# Altium integrated library Analog Devices RF IF Modulators and Demodulators.IntLib: 86 symbols (part 6 of 8)
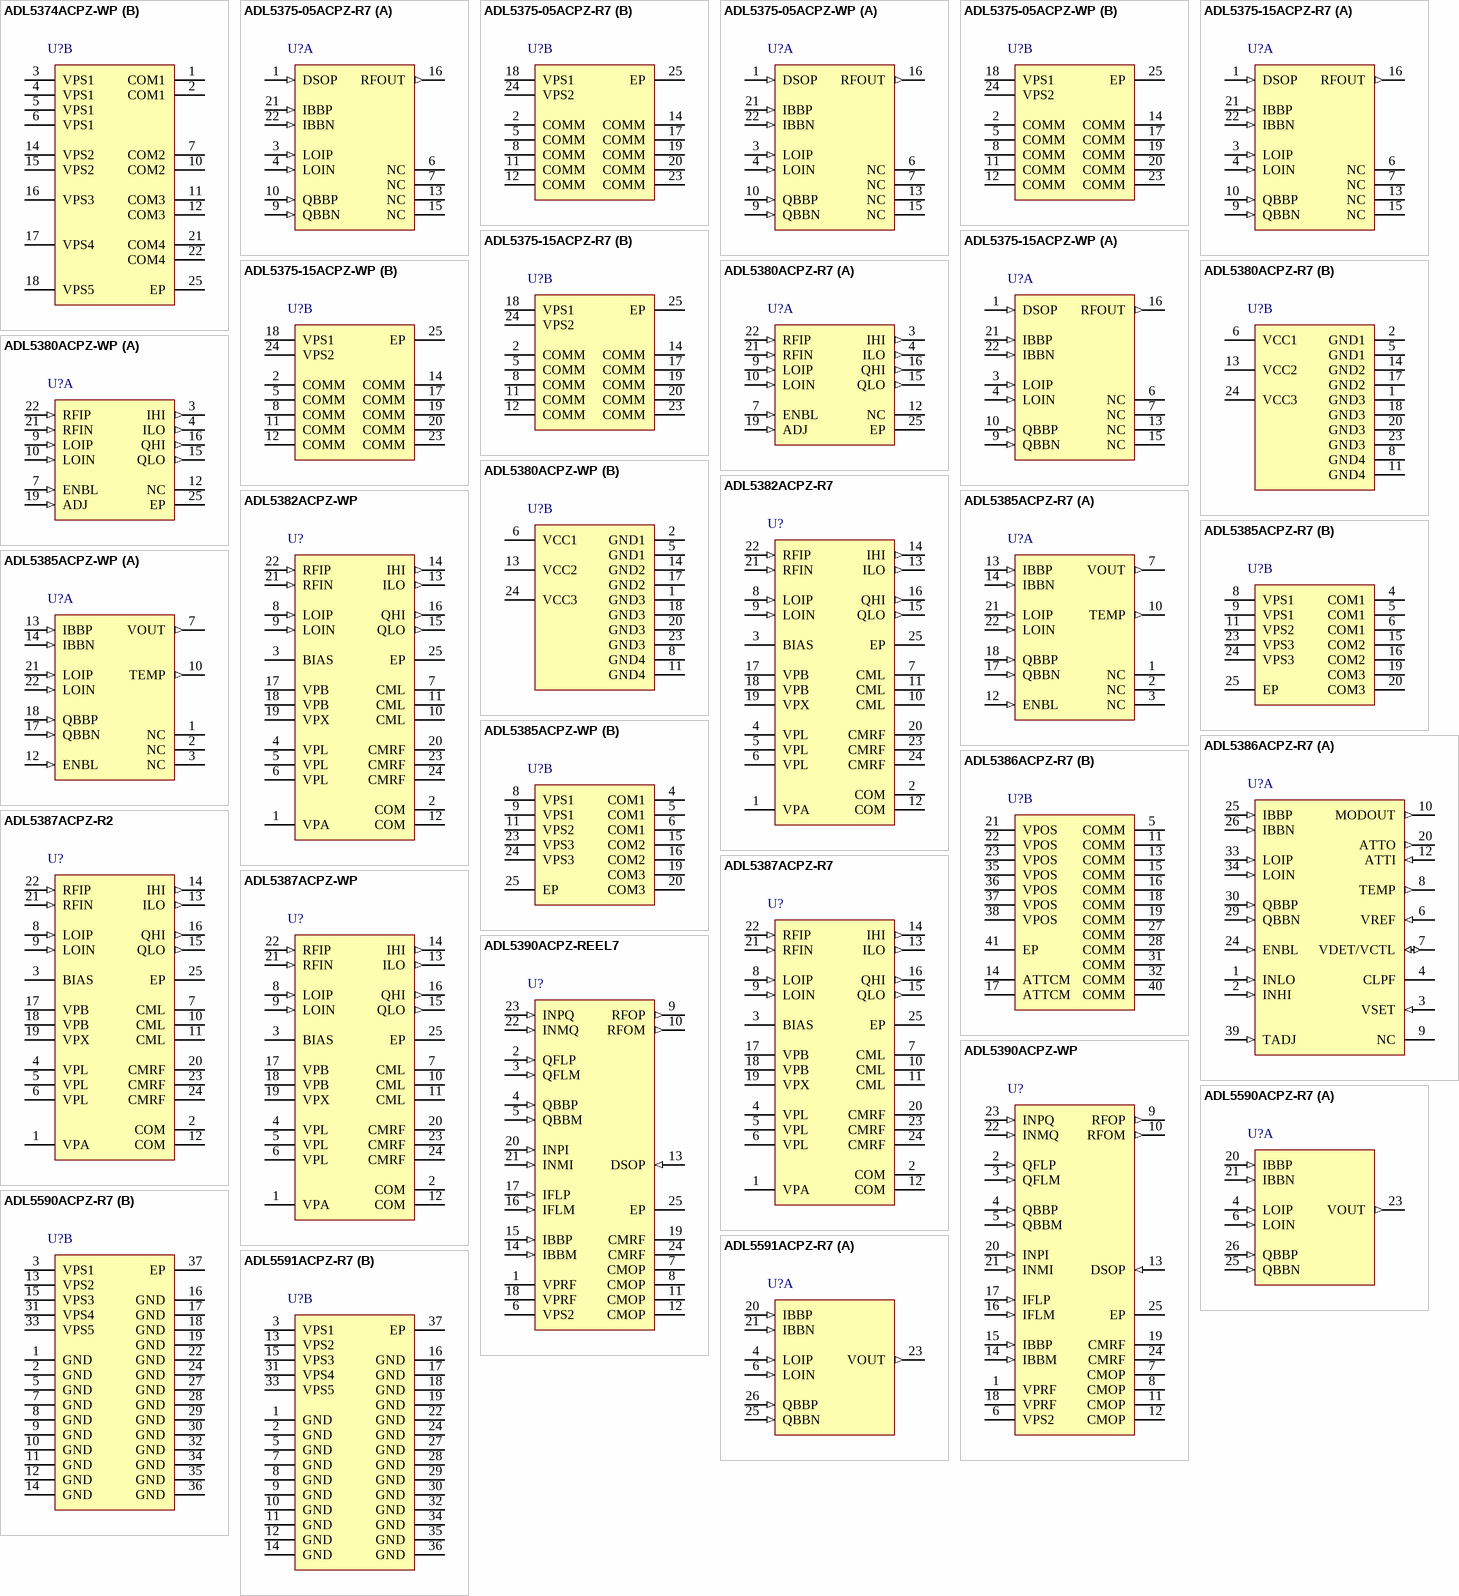
[diagram p10: symbols ADL5374ACPZ-WP to ADL5591ACPZ-R7]

## ADL5382ACPZ-R7
designator U?
700 MHz to 2.7 GHz Quadrature Demodulator, CP-24-2, Pb-Free, 1500 Reel; Min RF Frequency (MHz): 700MHz; Max RF Frequency (MHz): 2.7GHz; IQ Freq (MHz): 370MHz; Phase Error (deg): 0.2Deg; Amplitude Error (dB): 50mdB; Output P1dB (dBm): 14; DatasheetVersion: Rev. 0; PackageVersion: Jan-2005; PackageReference: CP-24-2; PackageDescription: 24-Lead Lead Frame Chip Scale Package [LFCSP_VQ]; Code_JEDEC: MO-220-VGGD-2; ComponentLink1Description: Manufacturer URL; ComponentLink1URL: www.analog.com; ComponentLink2Description: Datasheet; ComponentLink2URL: http://www.analog.com/static/imported-files/data_sheets/ADL5382.pdf; ComponentLink3Description: Package Specification; ComponentLink3URL: http://www.analog.com/static/imported-files/packages/588305704543880784658541CP_24_2.pdf
footprint ADI-CP-24-2_N (QFN, 24-Leads, Body 4x4mm, Pitch 0.5mm, Thermal Pad 2.3x2.3mm, IPC Medium Density)
footprint ADI-CP-24-2_L (QFN, 24-Leads, Body 4x4mm, Pitch 0.5mm, Thermal Pad 2.3x2.3mm, IPC High Density)
footprint ADI-CP-24-2_M (QFN, 24-Leads, Body 4x4mm, Pitch 0.5mm, Thermal Pad 2.3x2.3mm, IPC Low Density)
pins: 1 VPA (power) "Supply. Positive supply for LO, IF, biasing, and baseband sections. These pins should be decoupled to the board ground using appropriate-sized capacitors.", 2 COM (power) "Ground. Connect to a low impedance ground plane", 3 BIAS "Bias Control. A resistor (RBIAS) can be connected between BIAS and COM to reduce the mixer core current. The default setting for this pin is open.", 4 VPL (power) "Supply. Positive supply for LO, IF, biasing, and baseband sections. These pins should be decoupled to the board ground using appropriate-sized capacitors.", 5 VPL (power) "Supply. Positive supply for LO, IF, biasing, and baseband sections. These pins should be decoupled to the board ground using appropriate-sized capacitors.", 6 VPL (power) "Supply. Positive supply for LO, IF, biasing, and baseband sections. These pins should be decoupled to the board ground using appropriate-sized capacitors.", 7 CML (power) "Ground. Connect to a low impedance ground plane", 8 LOIP (in) "Local Oscillator Input. Pins must be ac-coupled. A differential drive through a balun (recommended balun is the M/A-COM ETC1-1-13) is necessary to achieve optimal performance.", 9 LOIN (in) "Local Oscillator Input. Pins must be ac-coupled. A differential drive through a balun (recommended balun is the M/A-COM ETC1-1-13) is necessary to achieve optimal performance.", 10 CML (power) "Ground. Connect to a low impedance ground plane", 11 CML (power) "Ground. Connect to a low impedance ground plane", 12 COM (power) "Ground. Connect to a low impedance ground plane", 13 ILO (out) "I Channel and Q Channel Mixer Baseband Outputs. These outputs have a 50 O differential output impedance (25 O per pin).  [see datasheet]", 14 IHI (out) "I Channel and Q Channel Mixer Baseband Outputs. These outputs have a 50 O differential output impedance (25 O per pin).  [see datasheet]", 15 QLO (out) "I Channel and Q Channel Mixer Baseband Outputs. These outputs have a 50 O differential output impedance (25 O per pin).  [see datasheet]", 16 QHI (out) "I Channel and Q Channel Mixer Baseband Outputs. These outputs have a 50 O differential output impedance (25 O per pin).  [see datasheet]", 17 VPB (power) "Supply. Positive supply for LO, IF, biasing, and baseband sections. These pins should be decoupled to the board ground using appropriate-sized capacitors.", 18 VPB (power) "Supply. Positive supply for LO, IF, biasing, and baseband sections. These pins should be decoupled to the board ground using appropriate-sized capacitors.", 19 VPX (power) "Supply. Positive supply for LO, IF, biasing, and baseband sections. These pins should be decoupled to the board ground using appropriate-sized capacitors.", 20 CMRF (power) "Ground. Connect to a low impedance ground plane", 21 RFIN (in) "RF Input. A single-ended 50 O signal can be applied to the RF inputs through a 1:1 balun (recommended balun is the M/A-COM ETC1-1-13).  [see datasheet]", 22 RFIP (in) "RF Input. A single-ended 50 O signal can be applied to the RF inputs through a 1:1 balun (recommended balun is the M/A-COM ETC1-1-13).  [see datasheet]", 23 CMRF (power) "Ground. Connect to a low impedance ground plane", 24 CMRF (power) "Ground. Connect to a low impedance ground plane", 25 EP (power) "Exposed Paddle. Connect to a low impedance thermal and electrical ground plane."

## ADL5382ACPZ-WP
designator U?
700 MHz to 2.7 GHz Quadrature Demodulator, CP-24-2, Pb-Free, 64 Tray; Min RF Frequency (MHz): 700MHz; Max RF Frequency (MHz): 2.7GHz; IQ Freq (MHz): 370MHz; Phase Error (deg): 0.2Deg; Amplitude Error (dB): 50mdB; Output P1dB (dBm): 14; DatasheetVersion: Rev. 0; PackageVersion: Jan-2005; PackageReference: CP-24-2; PackageDescription: 24-Lead Lead Frame Chip Scale Package [LFCSP_VQ]; Code_JEDEC: MO-220-VGGD-2; ComponentLink1Description: Manufacturer URL; ComponentLink1URL: www.analog.com; ComponentLink2Description: Datasheet; ComponentLink2URL: http://www.analog.com/static/imported-files/data_sheets/ADL5382.pdf; ComponentLink3Description: Package Specification; ComponentLink3URL: http://www.analog.com/static/imported-files/packages/588305704543880784658541CP_24_2.pdf
footprint ADI-CP-24-2_N (QFN, 24-Leads, Body 4x4mm, Pitch 0.5mm, Thermal Pad 2.3x2.3mm, IPC Medium Density)
footprint ADI-CP-24-2_L (QFN, 24-Leads, Body 4x4mm, Pitch 0.5mm, Thermal Pad 2.3x2.3mm, IPC High Density)
footprint ADI-CP-24-2_M (QFN, 24-Leads, Body 4x4mm, Pitch 0.5mm, Thermal Pad 2.3x2.3mm, IPC Low Density)
pins: 1 VPA (power) "Supply. Positive supply for LO, IF, biasing, and baseband sections. These pins should be decoupled to the board ground using appropriate-sized capacitors.", 2 COM (power) "Ground. Connect to a low impedance ground plane", 3 BIAS "Bias Control. A resistor (RBIAS) can be connected between BIAS and COM to reduce the mixer core current. The default setting for this pin is open.", 4 VPL (power) "Supply. Positive supply for LO, IF, biasing, and baseband sections. These pins should be decoupled to the board ground using appropriate-sized capacitors.", 5 VPL (power) "Supply. Positive supply for LO, IF, biasing, and baseband sections. These pins should be decoupled to the board ground using appropriate-sized capacitors.", 6 VPL (power) "Supply. Positive supply for LO, IF, biasing, and baseband sections. These pins should be decoupled to the board ground using appropriate-sized capacitors.", 7 CML (power) "Ground. Connect to a low impedance ground plane", 8 LOIP (in) "Local Oscillator Input. Pins must be ac-coupled. A differential drive through a balun (recommended balun is the M/A-COM ETC1-1-13) is necessary to achieve optimal performance.", 9 LOIN (in) "Local Oscillator Input. Pins must be ac-coupled. A differential drive through a balun (recommended balun is the M/A-COM ETC1-1-13) is necessary to achieve optimal performance.", 10 CML (power) "Ground. Connect to a low impedance ground plane", 11 CML (power) "Ground. Connect to a low impedance ground plane", 12 COM (power) "Ground. Connect to a low impedance ground plane", 13 ILO (out) "I Channel and Q Channel Mixer Baseband Outputs. These outputs have a 50 O differential output impedance (25 O per pin).  [see datasheet]", 14 IHI (out) "I Channel and Q Channel Mixer Baseband Outputs. These outputs have a 50 O differential output impedance (25 O per pin).  [see datasheet]", 15 QLO (out) "I Channel and Q Channel Mixer Baseband Outputs. These outputs have a 50 O differential output impedance (25 O per pin).  [see datasheet]", 16 QHI (out) "I Channel and Q Channel Mixer Baseband Outputs. These outputs have a 50 O differential output impedance (25 O per pin).  [see datasheet]", 17 VPB (power) "Supply. Positive supply for LO, IF, biasing, and baseband sections. These pins should be decoupled to the board ground using appropriate-sized capacitors.", 18 VPB (power) "Supply. Positive supply for LO, IF, biasing, and baseband sections. These pins should be decoupled to the board ground using appropriate-sized capacitors.", 19 VPX (power) "Supply. Positive supply for LO, IF, biasing, and baseband sections. These pins should be decoupled to the board ground using appropriate-sized capacitors.", 20 CMRF (power) "Ground. Connect to a low impedance ground plane", 21 RFIN (in) "RF Input. A single-ended 50 O signal can be applied to the RF inputs through a 1:1 balun (recommended balun is the M/A-COM ETC1-1-13).  [see datasheet]", 22 RFIP (in) "RF Input. A single-ended 50 O signal can be applied to the RF inputs through a 1:1 balun (recommended balun is the M/A-COM ETC1-1-13).  [see datasheet]", 23 CMRF (power) "Ground. Connect to a low impedance ground plane", 24 CMRF (power) "Ground. Connect to a low impedance ground plane", 25 EP (power) "Exposed Paddle. Connect to a low impedance thermal and electrical ground plane."

## ADL5385ACPZ-R7
designator U?
50 MHz to 2200 MHz Quadrature Modulator, CP-24-2, Pb-Free, 1500 Reel; Min RF Frequency (MHz): 50MHz; Max RF Frequency (MHz): 2.2GHz; IQ Freq (MHz): 500MHz; IIP3 (+dBm): 26dBm; Output P1dB (dBm): 11; DatasheetVersion: Rev0; PackageVersion: Jan-2005; PackageReference: CP-24-2; PackageDescription: 24-Lead Lead Frame Chip Scale Package [LFCSP_VQ]; Code_JEDEC: MO-220-VGGD-2; ComponentLink1Description: Manufacturer URL; ComponentLink1URL: www.analog.com; ComponentLink2Description: Datasheet; ComponentLink2URL: http://www.analog.com/static/imported-files/data_sheets/ADL5385.pdf; ComponentLink3Description: Package Specification; ComponentLink3URL: http://www.analog.com/static/imported-files/packages/588305704543880784658541CP_24_2.pdf
footprint ADI-CP-24-2_N (QFN, 24-Leads, Body 4x4mm, Pitch 0.5mm, Thermal Pad 2.3x2.3mm, IPC Medium Density)
footprint ADI-CP-24-2_L (QFN, 24-Leads, Body 4x4mm, Pitch 0.5mm, Thermal Pad 2.3x2.3mm, IPC High Density)
footprint ADI-CP-24-2_M (QFN, 24-Leads, Body 4x4mm, Pitch 0.5mm, Thermal Pad 2.3x2.3mm, IPC Low Density)
part A pins: 1 NC "No Connection. These pins can be left open or tied to ground.", 2 NC "No Connection. These pins can be left open or tied to ground.", 3 NC "No Connection. These pins can be left open or tied to ground.", 7 VOUT (out) "Device Output. Single-ended, 50  ohm internally biased RF/IF output; pin must be ac-coupled to the load", 10 TEMP (out) "Temperature Sensor Output. Provides dc voltage proportional to die temperature. Slope is 4.6 mV/ degreesC", 12 ENBL (in) "Device Enable. Shuts device down when grounded and enables device when pulled to supply voltage.", 13 IBBP (in) "Differential In-Phase and Quadrature Baseband Inputs. These high impedance inputs must be externally dc-biased to 500 mV dc and driven from a low impedance source. [see datasheet]", 14 IBBN (in) "Differential In-Phase and Quadrature Baseband Inputs. These high impedance inputs must be externally dc-biased to 500 mV dc and driven from a low impedance source. [see datasheet]", 17 QBBN (in) "Differential In-Phase and Quadrature Baseband Inputs. These high impedance inputs must be externally dc-biased to 500 mV dc and driven from a low impedance source. [see datasheet]", 18 QBBP (in) "Differential In-Phase and Quadrature Baseband Inputs. These high impedance inputs must be externally dc-biased to 500 mV dc and driven from a low impedance source. [see datasheet]", 21 LOIP (in) "Single-Ended Two-Times Local Oscillator Input. This input is internally biased and must be ac-coupled to the LO source.", 22 LOIN (in) "Common for LO Input. Must be ac-coupled to ground through a low impedance path."
part B pins: 4 COM1 (power) "Power Supply Common Pins. COM1, COM2, and COM3 must all be connected to a ground plane via a low impedance path.", 5 COM1 (power) "Power Supply Common Pins. COM1, COM2, and COM3 must all be connected to a ground plane via a low impedance path.", 6 COM1 (power) "Power Supply Common Pins. COM1, COM2, and COM3 must all be connected to a ground plane via a low impedance path.", 8 VPS1 (power) "Power Supply Pins. Decouple each pin with a 0.1 uF capacitor; Pin 8 and Pin 9 can share a single capacitor, as can Pin 23 and Pin 24. All pins must be connected to the same supply (Vs).", 9 VPS1 (power) "Power Supply Pins. Decouple each pin with a 0.1 uF capacitor; Pin 8 and Pin 9 can share a single capacitor, as can Pin 23 and Pin 24. All pins must be connected to the same supply (Vs).", 11 VPS2 (power) "Power Supply Pins. Decouple each pin with a 0.1 uF capacitor; Pin 8 and Pin 9 can share a single capacitor, as can Pin 23 and Pin 24. All pins must be connected to the same supply (Vs).", 15 COM2 (power) "Power Supply Common Pins. COM1, COM2, and COM3 must all be connected to a ground plane via a low impedance path.", 16 COM2 (power) "Power Supply Common Pins. COM1, COM2, and COM3 must all be connected to a ground plane via a low impedance path.", 19 COM3 (power) "Power Supply Common Pins. COM1, COM2, and COM3 must all be connected to a ground plane via a low impedance path.", 20 COM3 (power) "Power Supply Common Pins. COM1, COM2, and COM3 must all be connected to a ground plane via a low impedance path.", 23 VPS3 (power) "Power Supply Pins. Decouple each pin with a 0.1 uF capacitor; Pin 8 and Pin 9 can share a single capacitor, as can Pin 23 and Pin 24. All pins must be connected to the same supply (Vs).", 24 VPS3 (power) "Power Supply Pins. Decouple each pin with a 0.1 uF capacitor; Pin 8 and Pin 9 can share a single capacitor, as can Pin 23 and Pin 24. All pins must be connected to the same supply (Vs).", 25 EP (power) "Connect to ground plane via a low impedance path."

## ADL5385ACPZ-WP
designator U?
50 MHz to 2200 MHz Quadrature Modulator, CP-24-2, Pb-Free, 64 Tray; Min RF Frequency (MHz): 50MHz; Max RF Frequency (MHz): 2.2GHz; IQ Freq (MHz): 500MHz; IIP3 (+dBm): 26dBm; Output P1dB (dBm): 11; DatasheetVersion: Rev0; PackageVersion: Jan-2005; PackageReference: CP-24-2; PackageDescription: 24-Lead Lead Frame Chip Scale Package [LFCSP_VQ]; Code_JEDEC: MO-220-VGGD-2; ComponentLink1Description: Manufacturer URL; ComponentLink1URL: www.analog.com; ComponentLink2Description: Datasheet; ComponentLink2URL: http://www.analog.com/static/imported-files/data_sheets/ADL5385.pdf; ComponentLink3Description: Package Specification; ComponentLink3URL: http://www.analog.com/static/imported-files/packages/588305704543880784658541CP_24_2.pdf
footprint ADI-CP-24-2_N (QFN, 24-Leads, Body 4x4mm, Pitch 0.5mm, Thermal Pad 2.3x2.3mm, IPC Medium Density)
footprint ADI-CP-24-2_L (QFN, 24-Leads, Body 4x4mm, Pitch 0.5mm, Thermal Pad 2.3x2.3mm, IPC High Density)
footprint ADI-CP-24-2_M (QFN, 24-Leads, Body 4x4mm, Pitch 0.5mm, Thermal Pad 2.3x2.3mm, IPC Low Density)
part A pins: 1 NC "No Connection. These pins can be left open or tied to ground.", 2 NC "No Connection. These pins can be left open or tied to ground.", 3 NC "No Connection. These pins can be left open or tied to ground.", 7 VOUT (out) "Device Output. Single-ended, 50  ohm internally biased RF/IF output; pin must be ac-coupled to the load", 10 TEMP (out) "Temperature Sensor Output. Provides dc voltage proportional to die temperature. Slope is 4.6 mV/ degreesC", 12 ENBL (in) "Device Enable. Shuts device down when grounded and enables device when pulled to supply voltage.", 13 IBBP (in) "Differential In-Phase and Quadrature Baseband Inputs. These high impedance inputs must be externally dc-biased to 500 mV dc and driven from a low impedance source. [see datasheet]", 14 IBBN (in) "Differential In-Phase and Quadrature Baseband Inputs. These high impedance inputs must be externally dc-biased to 500 mV dc and driven from a low impedance source. [see datasheet]", 17 QBBN (in) "Differential In-Phase and Quadrature Baseband Inputs. These high impedance inputs must be externally dc-biased to 500 mV dc and driven from a low impedance source. [see datasheet]", 18 QBBP (in) "Differential In-Phase and Quadrature Baseband Inputs. These high impedance inputs must be externally dc-biased to 500 mV dc and driven from a low impedance source. [see datasheet]", 21 LOIP (in) "Single-Ended Two-Times Local Oscillator Input. This input is internally biased and must be ac-coupled to the LO source.", 22 LOIN (in) "Common for LO Input. Must be ac-coupled to ground through a low impedance path."
part B pins: 4 COM1 (power) "Power Supply Common Pins. COM1, COM2, and COM3 must all be connected to a ground plane via a low impedance path.", 5 COM1 (power) "Power Supply Common Pins. COM1, COM2, and COM3 must all be connected to a ground plane via a low impedance path.", 6 COM1 (power) "Power Supply Common Pins. COM1, COM2, and COM3 must all be connected to a ground plane via a low impedance path.", 8 VPS1 (power) "Power Supply Pins. Decouple each pin with a 0.1 uF capacitor; Pin 8 and Pin 9 can share a single capacitor, as can Pin 23 and Pin 24. All pins must be connected to the same supply (Vs).", 9 VPS1 (power) "Power Supply Pins. Decouple each pin with a 0.1 uF capacitor; Pin 8 and Pin 9 can share a single capacitor, as can Pin 23 and Pin 24. All pins must be connected to the same supply (Vs).", 11 VPS2 (power) "Power Supply Pins. Decouple each pin with a 0.1 uF capacitor; Pin 8 and Pin 9 can share a single capacitor, as can Pin 23 and Pin 24. All pins must be connected to the same supply (Vs).", 15 COM2 (power) "Power Supply Common Pins. COM1, COM2, and COM3 must all be connected to a ground plane via a low impedance path.", 16 COM2 (power) "Power Supply Common Pins. COM1, COM2, and COM3 must all be connected to a ground plane via a low impedance path.", 19 COM3 (power) "Power Supply Common Pins. COM1, COM2, and COM3 must all be connected to a ground plane via a low impedance path.", 20 COM3 (power) "Power Supply Common Pins. COM1, COM2, and COM3 must all be connected to a ground plane via a low impedance path.", 23 VPS3 (power) "Power Supply Pins. Decouple each pin with a 0.1 uF capacitor; Pin 8 and Pin 9 can share a single capacitor, as can Pin 23 and Pin 24. All pins must be connected to the same supply (Vs).", 24 VPS3 (power) "Power Supply Pins. Decouple each pin with a 0.1 uF capacitor; Pin 8 and Pin 9 can share a single capacitor, as can Pin 23 and Pin 24. All pins must be connected to the same supply (Vs).", 25 EP (power) "Connect to ground plane via a low impedance path."

## ADL5386ACPZ-R7
designator U?
50 MHz to 2200 MHz Quadrature Modulator with Integrated Detector and VVA, CP-40-1, Pb-Free, 750 Reel; Min RF Frequency (MHz): 50MHz; Max RF Frequency (MHz): 2.2GHz; IQ Freq (MHz): 700MHz; IIP3 (+dBm): 25dBm; Output P1dB (dBm): 11; DatasheetVersion: Rev0; PackageVersion: Oct-2006; PackageReference: CP-40-1; PackageDescription: 40-Lead Lead Frame Chip Scale Package [LFCSP_VQ]; Code_JEDEC: MO-220-VJJD-2; ComponentLink1Description: Manufacturer URL; ComponentLink1URL: www.analog.com; ComponentLink2Description: Datasheet; ComponentLink2URL: http://www.analog.com/static/imported-files/data_sheets/ADL5386.pdf; ComponentLink3Description: Package Specification; ComponentLink3URL: http://www.analog.com/static/imported-files/packages/PKG_PDF/LFCSP(CP)/CP_40_1.pdf
footprint ADI-CP-40-1_N (QFN, 40-Leads, Body 6x6mm, Pitch 0.5mm, Thermal Pad 4.3x4.3mm, IPC Medium Density)
footprint ADI-CP-40-1_L (QFN, 40-Leads, Body 6x6mm, Pitch 0.5mm, Thermal Pad 4.3x4.3mm, IPC High Density)
footprint ADI-CP-40-1_M (QFN, 40-Leads, Body 6x6mm, Pitch 0.5mm, Thermal Pad 4.3x4.3mm, IPC Low Density)
part A pins: 1 INLO (in) "Detector Common. This pin should be ac-coupled to ground.", 2 INHI (in) "Detector Input. When operating in AGC mode, a portion of the signal at the output of the VVA (or at the output of a subsequent stage) is coupled back to this input. [see datasheet]", 3 VSET (in) "Setpoint Input. Setpoint input for controller mode or feedback input for measurement mode.", 4 CLPF "AGC Loop Filter Capacitor. The ground-referenced capacitor that is connected to this pin sets the loop bandwidth of the AGC circuit.", 6 VREF (in) "Attenuator Control Voltage Reference.", 7 VDET/VCTL (io) "Detector Output/VVA Control Voltage Input. When the VVA is being controlled externally (open-loop mode), the attenuation is controlled by the external voltage applied to this pin. [see datasheet]", 8 TEMP (out) "Temperature Sensor Output. This pin provides a standalone temperature sensor output voltage. At room temperature, the nominal output voltage is equal to 1.45 V. [see datasheet]", 9 NC "No Connect. Do not connect this pin.", 10 MODOUT (out) "RF Output of IQ Modulator. Single-ended, 50  ohm internally biased RF output. MODOUT is generally ac-coupled to the input of the VVA (either ATTI or ATTO).", 12 ATTI (in) "VVA RF Input/Output. ATTI is normally ac-coupled to MODOUT. However, because the VVA is completely reversible, MODOUT can also drive ATTO with ATTI operating as the VVA output.", 20 ATTO (out) "VVA RF Input/Output. ATTI is normally ac-coupled to MODOUT. However, because the VVA is completely reversible, MODOUT can also drive ATTO with ATTI operating as the VVA output.", 24 ENBL (in) "IQ Modulator Enable. The IQ modulator is enabled by connecting this pin to VPOS and is disabled by connecting ENBL to ground.", 25 IBBP (in) "Differential In-Phase and Quadrature Baseband Inputs. These high impedance inputs should be dc-biased to 0.5 V. Nominal characterized ac signal swing is 700 mV p-p on each pin, resulting in a differential drive of 1.4 V p-p on each input pair. [see datas", 26 IBBN (in) "Differential In-Phase and Quadrature Baseband Inputs. These high impedance inputs should be dc-biased to 0.5 V. Nominal characterized ac signal swing is 700 mV p-p on each pin, resulting in a differential drive of 1.4 V p-p on each input pair. [see datas", 29 QBBN (in) "Differential In-Phase and Quadrature Baseband Inputs. These high impedance inputs should be dc-biased to 0.5 V. Nominal characterized ac signal swing is 700 mV p-p on each pin, resulting in a differential drive of 1.4 V p-p on each input pair. [see datas", 30 QBBP (in) "Differential In-Phase and Quadrature Baseband Inputs. These high impedance inputs should be dc-biased to 0.5 V. Nominal characterized ac signal swing is 700 mV p-p on each pin, resulting in a differential drive of 1.4 V p-p on each input pair. [see datas", 33 LOIP (in) "Local Oscillator Input. The local oscillator signal, at two times the output frequency, should be ac-coupled into this pin.", 34 LOIN (in) "Local Oscillator Common. This pin should be ac-coupled to ground.", 39 TADJ (in) "Temperature Compensation Adjustment Pin and Detector Enable/Disable. This pin is primarily used to provide temperature compensation to the on-chip log amp based AGC circuit. [see datasheet]"
part B pins: 5 COMM (power) "Device Common. Connect these pins to the same low impedance ground plane.", 11 COMM (power) "Device Common. Connect these pins to the same low impedance ground plane.", 13 COMM (power) "Device Common. Connect these pins to the same low impedance ground plane.", 14 ATTCM (power) "Device Common. Connect these pins to the same low impedance ground plane.", 15 COMM (power) "Device Common. Connect these pins to the same low impedance ground plane.", 16 COMM (power) "Device Common. Connect these pins to the same low impedance ground plane.", 17 ATTCM (power) "Device Common. Connect these pins to the same low impedance ground plane.", 18 COMM (power) "Device Common. Connect these pins to the same low impedance ground plane.", 19 COMM (power) "Device Common. Connect these pins to the same low impedance ground plane.", 21 VPOS (power) "Power Supply. Positive supply voltage pins. [See datasheet]", 22 VPOS (power) "Power Supply. Positive supply voltage pins. [See datasheet]", 23 VPOS (power) "Power Supply. Positive supply voltage pins. [See datasheet]", 27 COMM (power) "Device Common. Connect these pins to the same low impedance ground plane.", 28 COMM (power) "Device Common. Connect these pins to the same low impedance ground plane.", 31 COMM (power) "Device Common. Connect these pins to the same low impedance ground plane.", 32 COMM (power) "Device Common. Connect these pins to the same low impedance ground plane.", 35 VPOS (power) "Power Supply. Positive supply voltage pins. [See datasheet]", 36 VPOS (power) "Power Supply. Positive supply voltage pins. [See datasheet]", 37 VPOS (power) "Power Supply. Positive supply voltage pins. [See datasheet]", 38 VPOS (power) "Power Supply. Positive supply voltage pins. [See datasheet]", 40 COMM (power) "Device Common. Connect these pins to the same low impedance ground plane.", 41 EP (power) "Exposed Pad"

## ADL5387ACPZ-R2
designator U?
50 MHz to 2 GHz Quadrature Demodulator, CP-24-2, Pb-Free, 250 Reel; Min RF Frequency (MHz): 50MHz; Max RF Frequency (MHz): 2GHz; IQ Freq (MHz): 240MHz; Phase Error (deg): 0.4Deg; Amplitude Error (dB): 100mdB; Output P1dB (dBm): 13; DatasheetVersion: Rev. 0; PackageVersion: Jan-2005; PackageReference: CP-24-2; PackageDescription: 24-Lead Lead Frame Chip Scale Package [LFCSP_VQ]; Code_JEDEC: MO-220-VGGD-2; ComponentLink1Description: Manufacturer URL; ComponentLink1URL: www.analog.com; ComponentLink2Description: Datasheet; ComponentLink2URL: http://www.analog.com/static/imported-files/data_sheets/ADL5387.pdf; ComponentLink3Description: Package Specification; ComponentLink3URL: http://www.analog.com/static/imported-files/packages/588305704543880784658541CP_24_2.pdf
footprint ADI-CP-24-2_N (QFN, 24-Leads, Body 4x4mm, Pitch 0.5mm, Thermal Pad 2.3x2.3mm, IPC Medium Density)
footprint ADI-CP-24-2_L (QFN, 24-Leads, Body 4x4mm, Pitch 0.5mm, Thermal Pad 2.3x2.3mm, IPC High Density)
footprint ADI-CP-24-2_M (QFN, 24-Leads, Body 4x4mm, Pitch 0.5mm, Thermal Pad 2.3x2.3mm, IPC Low Density)
pins: 1 VPA (power) "Supply. Positive supply for LO, IF, biasing and baseband sections, respectively. These pins should be decoupled to board ground using appropriate sized capacitors.", 2 COM (power) "Ground. Connect to a low impedance ground plane.", 3 BIAS (oc) "Bias Control. A resistor can be connected between BIAS and COM to reduce the mixer core current. The default setting for this pin is open.", 4 VPL (power) "Supply. Positive supply for LO, IF, biasing and baseband sections, respectively. These pins should be decoupled to board ground using appropriate sized capacitors.", 5 VPL (power) "Supply. Positive supply for LO, IF, biasing and baseband sections, respectively. These pins should be decoupled to board ground using appropriate sized capacitors.", 6 VPL (power) "Supply. Positive supply for LO, IF, biasing and baseband sections, respectively. These pins should be decoupled to board ground using appropriate sized capacitors.", 7 CML (power) "Ground. Connect to a low impedance ground plane.", 8 LOIP (in) "Local Oscillator. External LO input is at 2xLO frequency.[see  datasheet]", 9 LOIN (in) "Local Oscillator. External LO input is at 2xLO frequency.[see  datasheet]", 10 CML (power) "Ground. Connect to a low impedance ground plane.", 11 CML (power) "Ground. Connect to a low impedance ground plane.", 12 COM (power) "Ground. Connect to a low impedance ground plane.", 13 ILO (out) "I-Channel and Q-Channel Mixer Baseband Outputs. These outputs have a 50 O differential output impedance (25 O per pin).[see  datasheet]", 14 IHI (out) "I-Channel and Q-Channel Mixer Baseband Outputs. These outputs have a 50 O differential output impedance (25 O per pin).[see  datasheet]", 15 QLO (out) "I-Channel and Q-Channel Mixer Baseband Outputs. These outputs have a 50 O differential output impedance (25 O per pin).[see  datasheet]", 16 QHI (out) "I-Channel and Q-Channel Mixer Baseband Outputs. These outputs have a 50 O differential output impedance (25 O per pin).[see  datasheet]", 17 VPB (power) "Supply. Positive supply for LO, IF, biasing and baseband sections, respectively. These pins should be decoupled to board ground using appropriate sized capacitors.", 18 VPB (power) "Supply. Positive supply for LO, IF, biasing and baseband sections, respectively. These pins should be decoupled to board ground using appropriate sized capacitors.", 19 VPX (power) "Supply. Positive supply for LO, IF, biasing and baseband sections, respectively. These pins should be decoupled to board ground using appropriate sized capacitors.", 20 CMRF (power) "Ground. Connect to a low impedance ground plane.", 21 RFIN (in) "RF Input. A single-ended 50 ohm signal can be applied to the RF inputs through a 1:1 balun (recommended balun is M/A-COM ETC1-1-13).[see  datasheet]", 22 RFIP (in) "RF Input. A single-ended 50 ohm signal can be applied to the RF inputs through a 1:1 balun (recommended balun is M/A-COM ETC1-1-13).[see  datasheet]", 23 CMRF (power) "Ground. Connect to a low impedance ground plane.", 24 CMRF (power) "Ground. Connect to a low impedance ground plane.", 25 EP (power) "Exposed Paddle. Connect to a low impedance ground plane"

## ADL5387ACPZ-R7
designator U?
50 MHz to 2 GHz Quadrature Demodulator, CP-24-2, Pb-Free, 1500 Reel; Min RF Frequency (MHz): 50MHz; Max RF Frequency (MHz): 2GHz; IQ Freq (MHz): 240MHz; Phase Error (deg): 0.4Deg; Amplitude Error (dB): 100mdB; Output P1dB (dBm): 13; DatasheetVersion: Rev. 0; PackageVersion: Jan-2005; PackageReference: CP-24-2; PackageDescription: 24-Lead Lead Frame Chip Scale Package [LFCSP_VQ]; Code_JEDEC: MO-220-VGGD-2; ComponentLink1Description: Manufacturer URL; ComponentLink1URL: www.analog.com; ComponentLink2Description: Datasheet; ComponentLink2URL: http://www.analog.com/static/imported-files/data_sheets/ADL5387.pdf; ComponentLink3Description: Package Specification; ComponentLink3URL: http://www.analog.com/static/imported-files/packages/588305704543880784658541CP_24_2.pdf
footprint ADI-CP-24-2_N (QFN, 24-Leads, Body 4x4mm, Pitch 0.5mm, Thermal Pad 2.3x2.3mm, IPC Medium Density)
footprint ADI-CP-24-2_L (QFN, 24-Leads, Body 4x4mm, Pitch 0.5mm, Thermal Pad 2.3x2.3mm, IPC High Density)
footprint ADI-CP-24-2_M (QFN, 24-Leads, Body 4x4mm, Pitch 0.5mm, Thermal Pad 2.3x2.3mm, IPC Low Density)
pins: 1 VPA (power) "Supply. Positive supply for LO, IF, biasing and baseband sections, respectively. These pins should be decoupled to board ground using appropriate sized capacitors.", 2 COM (power) "Ground. Connect to a low impedance ground plane.", 3 BIAS (oc) "Bias Control. A resistor can be connected between BIAS and COM to reduce the mixer core current. The default setting for this pin is open.", 4 VPL (power) "Supply. Positive supply for LO, IF, biasing and baseband sections, respectively. These pins should be decoupled to board ground using appropriate sized capacitors.", 5 VPL (power) "Supply. Positive supply for LO, IF, biasing and baseband sections, respectively. These pins should be decoupled to board ground using appropriate sized capacitors.", 6 VPL (power) "Supply. Positive supply for LO, IF, biasing and baseband sections, respectively. These pins should be decoupled to board ground using appropriate sized capacitors.", 7 CML (power) "Ground. Connect to a low impedance ground plane.", 8 LOIP (in) "Local Oscillator. External LO input is at 2xLO frequency.[see  datasheet]", 9 LOIN (in) "Local Oscillator. External LO input is at 2xLO frequency.[see  datasheet]", 10 CML (power) "Ground. Connect to a low impedance ground plane.", 11 CML (power) "Ground. Connect to a low impedance ground plane.", 12 COM (power) "Ground. Connect to a low impedance ground plane.", 13 ILO (out) "I-Channel and Q-Channel Mixer Baseband Outputs. These outputs have a 50 O differential output impedance (25 O per pin).[see  datasheet]", 14 IHI (out) "I-Channel and Q-Channel Mixer Baseband Outputs. These outputs have a 50 O differential output impedance (25 O per pin).[see  datasheet]", 15 QLO (out) "I-Channel and Q-Channel Mixer Baseband Outputs. These outputs have a 50 O differential output impedance (25 O per pin).[see  datasheet]", 16 QHI (out) "I-Channel and Q-Channel Mixer Baseband Outputs. These outputs have a 50 O differential output impedance (25 O per pin).[see  datasheet]", 17 VPB (power) "Supply. Positive supply for LO, IF, biasing and baseband sections, respectively. These pins should be decoupled to board ground using appropriate sized capacitors.", 18 VPB (power) "Supply. Positive supply for LO, IF, biasing and baseband sections, respectively. These pins should be decoupled to board ground using appropriate sized capacitors.", 19 VPX (power) "Supply. Positive supply for LO, IF, biasing and baseband sections, respectively. These pins should be decoupled to board ground using appropriate sized capacitors.", 20 CMRF (power) "Ground. Connect to a low impedance ground plane.", 21 RFIN (in) "RF Input. A single-ended 50 ohm signal can be applied to the RF inputs through a 1:1 balun (recommended balun is M/A-COM ETC1-1-13).[see  datasheet]", 22 RFIP (in) "RF Input. A single-ended 50 ohm signal can be applied to the RF inputs through a 1:1 balun (recommended balun is M/A-COM ETC1-1-13).[see  datasheet]", 23 CMRF (power) "Ground. Connect to a low impedance ground plane.", 24 CMRF (power) "Ground. Connect to a low impedance ground plane.", 25 EP (power) "Exposed Paddle. Connect to a low impedance ground plane"

## ADL5387ACPZ-WP
designator U?
50 MHz to 2 GHz Quadrature Demodulator, CP-24-2, Pb-Free, 64 Tray; Min RF Frequency (MHz): 50MHz; Max RF Frequency (MHz): 2GHz; IQ Freq (MHz): 240MHz; Phase Error (deg): 0.4Deg; Amplitude Error (dB): 100mdB; Output P1dB (dBm): 13; DatasheetVersion: Rev. 0; PackageVersion: Jan-2005; PackageReference: CP-24-2; PackageDescription: 24-Lead Lead Frame Chip Scale Package [LFCSP_VQ]; Code_JEDEC: MO-220-VGGD-2; ComponentLink1Description: Manufacturer URL; ComponentLink1URL: www.analog.com; ComponentLink2Description: Datasheet; ComponentLink2URL: http://www.analog.com/static/imported-files/data_sheets/ADL5387.pdf; ComponentLink3Description: Package Specification; ComponentLink3URL: http://www.analog.com/static/imported-files/packages/588305704543880784658541CP_24_2.pdf
footprint ADI-CP-24-2_N (QFN, 24-Leads, Body 4x4mm, Pitch 0.5mm, Thermal Pad 2.3x2.3mm, IPC Medium Density)
footprint ADI-CP-24-2_L (QFN, 24-Leads, Body 4x4mm, Pitch 0.5mm, Thermal Pad 2.3x2.3mm, IPC High Density)
footprint ADI-CP-24-2_M (QFN, 24-Leads, Body 4x4mm, Pitch 0.5mm, Thermal Pad 2.3x2.3mm, IPC Low Density)
pins: 1 VPA (power) "Supply. Positive supply for LO, IF, biasing and baseband sections, respectively. These pins should be decoupled to board ground using appropriate sized capacitors.", 2 COM (power) "Ground. Connect to a low impedance ground plane.", 3 BIAS (oc) "Bias Control. A resistor can be connected between BIAS and COM to reduce the mixer core current. The default setting for this pin is open.", 4 VPL (power) "Supply. Positive supply for LO, IF, biasing and baseband sections, respectively. These pins should be decoupled to board ground using appropriate sized capacitors.", 5 VPL (power) "Supply. Positive supply for LO, IF, biasing and baseband sections, respectively. These pins should be decoupled to board ground using appropriate sized capacitors.", 6 VPL (power) "Supply. Positive supply for LO, IF, biasing and baseband sections, respectively. These pins should be decoupled to board ground using appropriate sized capacitors.", 7 CML (power) "Ground. Connect to a low impedance ground plane.", 8 LOIP (in) "Local Oscillator. External LO input is at 2xLO frequency.[see  datasheet]", 9 LOIN (in) "Local Oscillator. External LO input is at 2xLO frequency.[see  datasheet]", 10 CML (power) "Ground. Connect to a low impedance ground plane.", 11 CML (power) "Ground. Connect to a low impedance ground plane.", 12 COM (power) "Ground. Connect to a low impedance ground plane.", 13 ILO (out) "I-Channel and Q-Channel Mixer Baseband Outputs. These outputs have a 50 O differential output impedance (25 O per pin).[see  datasheet]", 14 IHI (out) "I-Channel and Q-Channel Mixer Baseband Outputs. These outputs have a 50 O differential output impedance (25 O per pin).[see  datasheet]", 15 QLO (out) "I-Channel and Q-Channel Mixer Baseband Outputs. These outputs have a 50 O differential output impedance (25 O per pin).[see  datasheet]", 16 QHI (out) "I-Channel and Q-Channel Mixer Baseband Outputs. These outputs have a 50 O differential output impedance (25 O per pin).[see  datasheet]", 17 VPB (power) "Supply. Positive supply for LO, IF, biasing and baseband sections, respectively. These pins should be decoupled to board ground using appropriate sized capacitors.", 18 VPB (power) "Supply. Positive supply for LO, IF, biasing and baseband sections, respectively. These pins should be decoupled to board ground using appropriate sized capacitors.", 19 VPX (power) "Supply. Positive supply for LO, IF, biasing and baseband sections, respectively. These pins should be decoupled to board ground using appropriate sized capacitors.", 20 CMRF (power) "Ground. Connect to a low impedance ground plane.", 21 RFIN (in) "RF Input. A single-ended 50 ohm signal can be applied to the RF inputs through a 1:1 balun (recommended balun is M/A-COM ETC1-1-13).[see  datasheet]", 22 RFIP (in) "RF Input. A single-ended 50 ohm signal can be applied to the RF inputs through a 1:1 balun (recommended balun is M/A-COM ETC1-1-13).[see  datasheet]", 23 CMRF (power) "Ground. Connect to a low impedance ground plane.", 24 CMRF (power) "Ground. Connect to a low impedance ground plane.", 25 EP (power) "Exposed Paddle. Connect to a low impedance ground plane"

## ADL5390ACPZ-REEL7
designator U?
20MHzto 2.4GHz, RF/IF Vector Multiplier, CP-24-2, Pb-Free, 1500 	Reel; Min RF Frequency (MHz): 20MHz; IQ Freq (MHz): 230MHz; IIP3 (+dBm): 25dBm; Output P1dB (dBm): 11.5; DatasheetVersion: Rev0; PackageVersion: Jan-2005; PackageReference: CP-24-2; PackageDescription: 24-Lead Lead Frame Chip Scale Package [LFCSP_VQ]; Max RF Frequency (MHz): 2.4GHz; Code_JEDEC: MO-220-VGGD-2; ComponentLink1Description: Manufacturer URL; ComponentLink1URL: www.analog.com; ComponentLink2Description: Datasheet; ComponentLink2URL: http://www.analog.com/static/imported-files/data_sheets/ADL5390.pdf; ComponentLink3Description: Package Specification; ComponentLink3URL: http://www.analog.com/static/imported-files/packages/588305704543880784658541CP_24_2.pdf
footprint ADI-CP-24-2_N (QFN, 24-Leads, Body 4x4mm, Pitch 0.5mm, Thermal Pad 2.3x2.3mm, IPC Medium Density)
footprint ADI-CP-24-2_L (QFN, 24-Leads, Body 4x4mm, Pitch 0.5mm, Thermal Pad 2.3x2.3mm, IPC High Density)
footprint ADI-CP-24-2_M (QFN, 24-Leads, Body 4x4mm, Pitch 0.5mm, Thermal Pad 2.3x2.3mm, IPC Low Density)
pins: 1 VPRF (power) "Positive Supply Voltage. VP of 4.75 V to 5.25 V.", 2 QFLP (in) "Q Baseband Input Filter Pins. Connect optional capacitor to reduce Q baseband gain control channel low-pass corner frequency.", 3 QFLM (in) "Q Baseband Input Filter Pins. Connect optional capacitor to reduce Q baseband gain control channel low-pass corner frequency.", 4 QBBP (in) "Q Channel Differential Baseband Gain Control Inputs. Typical common-mode bias level of 0.5 V.", 5 QBBM (in) "Q Channel Differential Baseband Gain Control Inputs. Typical common-mode bias level of 0.5 V.", 6 VPS2 (power) "Positive Supply Voltage. VP of 4.75 V to 5.25 V.", 7 CMOP (power) "Device Common. Connect via lowest possible impedance to external circuit common.", 8 CMOP (power) "Device Common. Connect via lowest possible impedance to external circuit common.", 9 RFOP (out) "Differential RF Outputs. Must be ac-coupled. Differential impedance 50ohm nominal.", 10 RFOM (out) "Differential RF Outputs. Must be ac-coupled. Differential impedance 50ohm nominal.", 11 CMOP (power) "Device Common. Connect via lowest possible impedance to external circuit common.", 12 CMOP (power) "Device Common. Connect via lowest possible impedance to external circuit common.", 13 DSOP (in) "Output Disable. Pull high to disable output stage. Connect to common for normal operation.", 14 IBBM (in) "I Channel Differential Baseband Gain Control Inputs. Typical common-mode bias level of 0.5 V.", 15 IBBP (in) "I Channel Differential Baseband Gain Control Inputs. Typical common-mode bias level of 0.5 V.", 16 IFLM (in) "I Baseband Input Filter Pins. Connect optional capacitor to reduce I baseband gain control channel low-pass corner frequency.", 17 IFLP (in) "I Baseband Input Filter Pins. Connect optional capacitor to reduce I baseband gain control channel low-pass corner frequency.", 18 VPRF (power) "Positive Supply Voltage. VP of 4.75 V to 5.25 V.", 19 CMRF (power) "Device Common. Connect via lowest possible impedance to external circuit common.", 20 INPI (in) "I Channel Differential RF Inputs. Must be ac-coupled. 250ohm impedance to common on each pin. These inputs can be driven single-ended without any performance degradation.", 21 INMI (in) "I Channel Differential RF Inputs. Must be ac-coupled. 250ohm impedance to common on each pin. These inputs can be driven single-ended without any performance degradation.", 22 INMQ (in) "Q Channel Differential RF Inputs. Must be ac-coupled. 250ohm impedance to common on each pin. These inputs can be driven single-ended without any performance degradation.", 23 INPQ (in) "Q Channel Differential RF Inputs. Must be ac-coupled. 250ohm impedance to common on each pin. These inputs can be driven single-ended without any performance degradation.", 24 CMRF (power) "Device Common. Connect via lowest possible impedance to external circuit common.", 25 EP (power) "The exposed paddle on the underside of the package should be soldered to a low thermal and electrical impedance ground plane."

## ADL5390ACPZ-WP
designator U?
20MHzto 2.4GHz, RF/IF Vector Multiplier, CP-24-2, Pb-Free, 64 	Tray; Min RF Frequency (MHz): 20MHz; IQ Freq (MHz): 230MHz; IIP3 (+dBm): 25dBm; Output P1dB (dBm): 11.5; DatasheetVersion: Rev0; PackageVersion: Jan-2005; PackageReference: CP-24-2; PackageDescription: 24-Lead Lead Frame Chip Scale Package [LFCSP_VQ]; Max RF Frequency (MHz): 2.4GHz; Code_JEDEC: MO-220-VGGD-2; ComponentLink1Description: Manufacturer URL; ComponentLink1URL: www.analog.com; ComponentLink2Description: Datasheet; ComponentLink2URL: http://www.analog.com/static/imported-files/data_sheets/ADL5390.pdf; ComponentLink3Description: Package Specification; ComponentLink3URL: http://www.analog.com/static/imported-files/packages/588305704543880784658541CP_24_2.pdf
footprint ADI-CP-24-2_N (QFN, 24-Leads, Body 4x4mm, Pitch 0.5mm, Thermal Pad 2.3x2.3mm, IPC Medium Density)
footprint ADI-CP-24-2_L (QFN, 24-Leads, Body 4x4mm, Pitch 0.5mm, Thermal Pad 2.3x2.3mm, IPC High Density)
footprint ADI-CP-24-2_M (QFN, 24-Leads, Body 4x4mm, Pitch 0.5mm, Thermal Pad 2.3x2.3mm, IPC Low Density)
pins: 1 VPRF (power) "Positive Supply Voltage. VP of 4.75 V to 5.25 V.", 2 QFLP (in) "Q Baseband Input Filter Pins. Connect optional capacitor to reduce Q baseband gain control channel low-pass corner frequency.", 3 QFLM (in) "Q Baseband Input Filter Pins. Connect optional capacitor to reduce Q baseband gain control channel low-pass corner frequency.", 4 QBBP (in) "Q Channel Differential Baseband Gain Control Inputs. Typical common-mode bias level of 0.5 V.", 5 QBBM (in) "Q Channel Differential Baseband Gain Control Inputs. Typical common-mode bias level of 0.5 V.", 6 VPS2 (power) "Positive Supply Voltage. VP of 4.75 V to 5.25 V.", 7 CMOP (power) "Device Common. Connect via lowest possible impedance to external circuit common.", 8 CMOP (power) "Device Common. Connect via lowest possible impedance to external circuit common.", 9 RFOP (out) "Differential RF Outputs. Must be ac-coupled. Differential impedance 50ohm nominal.", 10 RFOM (out) "Differential RF Outputs. Must be ac-coupled. Differential impedance 50ohm nominal.", 11 CMOP (power) "Device Common. Connect via lowest possible impedance to external circuit common.", 12 CMOP (power) "Device Common. Connect via lowest possible impedance to external circuit common.", 13 DSOP (in) "Output Disable. Pull high to disable output stage. Connect to common for normal operation.", 14 IBBM (in) "I Channel Differential Baseband Gain Control Inputs. Typical common-mode bias level of 0.5 V.", 15 IBBP (in) "I Channel Differential Baseband Gain Control Inputs. Typical common-mode bias level of 0.5 V.", 16 IFLM (in) "I Baseband Input Filter Pins. Connect optional capacitor to reduce I baseband gain control channel low-pass corner frequency.", 17 IFLP (in) "I Baseband Input Filter Pins. Connect optional capacitor to reduce I baseband gain control channel low-pass corner frequency.", 18 VPRF (power) "Positive Supply Voltage. VP of 4.75 V to 5.25 V.", 19 CMRF (power) "Device Common. Connect via lowest possible impedance to external circuit common.", 20 INPI (in) "I Channel Differential RF Inputs. Must be ac-coupled. 250ohm impedance to common on each pin. These inputs can be driven single-ended without any performance degradation.", 21 INMI (in) "I Channel Differential RF Inputs. Must be ac-coupled. 250ohm impedance to common on each pin. These inputs can be driven single-ended without any performance degradation.", 22 INMQ (in) "Q Channel Differential RF Inputs. Must be ac-coupled. 250ohm impedance to common on each pin. These inputs can be driven single-ended without any performance degradation.", 23 INPQ (in) "Q Channel Differential RF Inputs. Must be ac-coupled. 250ohm impedance to common on each pin. These inputs can be driven single-ended without any performance degradation.", 24 CMRF (power) "Device Common. Connect via lowest possible impedance to external circuit common.", 25 EP (power) "The exposed paddle on the underside of the package should be soldered to a low thermal and electrical impedance ground plane."